# EAGLE library part AS-ITM-00134 (library tinycircuits)
IC GPIO EXP I2C 16CH 28UTQFN
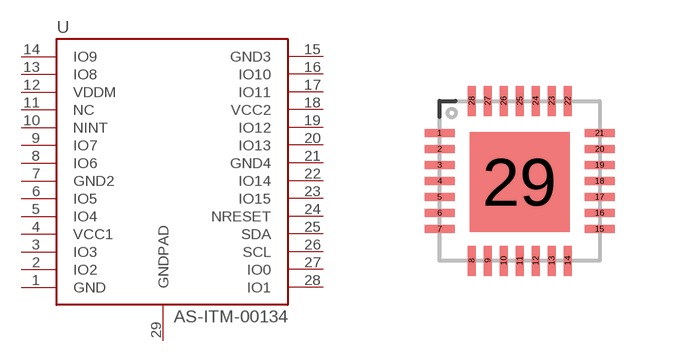
[diagram p56: symbol with the pads of SX1506; footprint SX1506]

Designator prefix U

## AS-ITM-00134 (PARTNO: AS-ITM-00134; VALUE: SX1506)  [SX1506]
1  GND
2  IO2
3  IO3
4  VCC1
5  IO4
6  IO5
7  GND2
8  IO6
9  IO7
10  NINT
11  NC
12  VDDM
13  IO8
14  IO9
15  GND3
16  IO10
17  IO11
18  VCC2
19  IO12
20  IO13
21  GND4
22  IO14
23  IO15
24  NRESET
25  SDA
26  SCL
27  IO0
28  IO1
29  GNDPAD

## Footprint SX1506 (pad centres in mm)
smd 0.75 x 0.2: 1 -2,1.2; 2 -2,0.8; 3 -2,0.4; 4 -2,0; 5 -2,-0.4; 6 -2,-0.8; 7 -2,-1.2; 15 2,-1.2; 16 2,-0.8; 17 2,-0.4; 18 2,0; 19 2,0.4; 20 2,0.8; 21 2,1.2
smd 0.2 x 0.75: 8 -1.2,-2; 9 -0.8,-2; 10 -0.4,-2; 11 0,-2; 12 0.4,-2; 13 0.8,-2; 14 1.2,-2; 22 1.2,2; 23 0.8,2; 24 0.4,2; 25 0,2; 26 -0.4,2; 27 -0.8,2; 28 -1.2,2
smd 2.5 x 2.5: 29 0,-0.025